# EAGLE library part USB-B-MINI-SMD (library 1_USER)
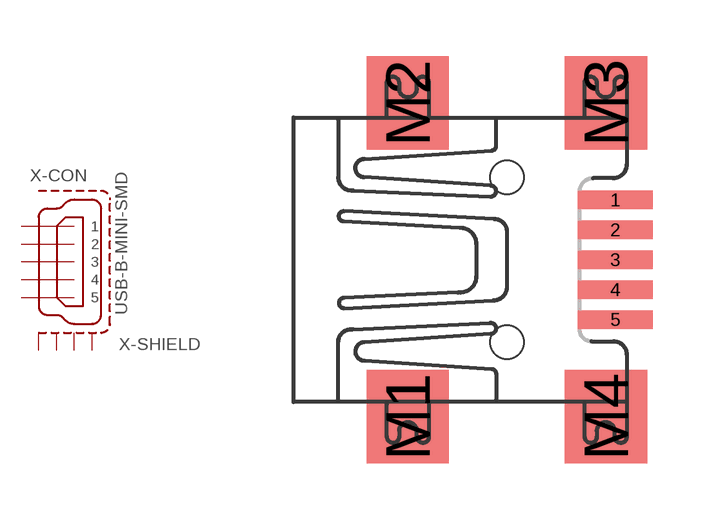
[diagram p16: symbol with the pads of USB-B-MINI-SMD; footprint USB-B-MINI-SMD]

Designator prefix X; gates -CON=USB-B-MINI -SHIELD=USB-B-MINI-SHIELD

## USB-B-MINI-SMD  [USB-B-MINI-SMD]
1  -CON:1  in
2  -CON:2  in
3  -CON:3  in
4  -CON:4  in
5  -CON:5  in
M1  -SHIELD:S1  pas
M2  -SHIELD:S2  pas
M3  -SHIELD:S3  pas
M4  -SHIELD:S4  pas

## Footprint USB-B-MINI-SMD (pad centres in mm)
smd 2 x 0.5: 1 2.9,1.6; 2 2.9,0.8; 3 2.9,0; 4 2.9,-0.8; 5 2.9,-1.6
smd 2.2 x 2.5: M1 -2.65,-4.2; M2 -2.65,4.2; M3 2.65,4.2; M4 2.65,-4.2
hole 0.9 at 0,2.2
hole 0.9 at 0,-2.2